# EAGLE library part CPL-MDR-2PHSTEPPER (library TinWhiskers - Copy)
Stepper Driver (Trinamic TMC2130-LA)
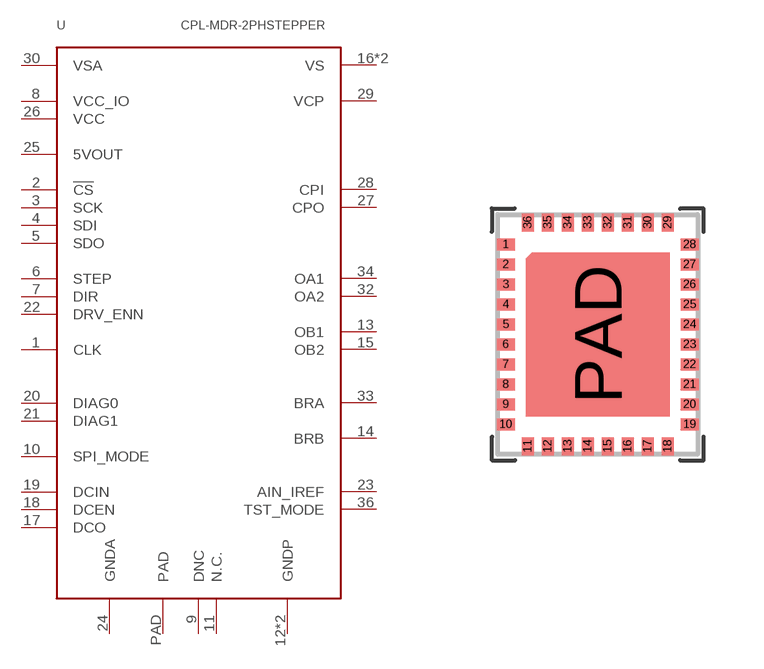
[diagram p0: symbol with the pads of QFN36-(5X6); footprint QFN36-(5X6)]

Designator prefix -

## CPL-MDR-2PHSTEPPER  [QFN36-(5X6)]
1  CLK
2  !CS
3  SCK
4  SDI
5  SDO
6  STEP
7  DIR
8  VCC_IO
9  DNC
10  SPI_MODE
11  N.C.
12  GNDP
13  OB1
14  BRB
15  OB2
16  VS
17  DCO
18  DCEN
19  DCIN
20  DIAG0
21  DIAG1
22  DRV_ENN
23  AIN_IREF
24  GNDA
25  5VOUT
26  VCC
27  CPO
28  CPI
29  VCP
30  VSA
31  VS
32  OA2
33  BRA
34  OA1
35  GNDP
36  TST_MODE
PAD  PAD

## Footprint QFN36-(5X6) (pad centres in mm)
smd 0.45 x 0.3: 1 -2.3,2.25; 2 -2.3,1.75; 3 -2.3,1.25; 4 -2.3,0.75; 5 -2.3,0.25; 6 -2.3,-0.25; 7 -2.3,-0.75; 8 -2.3,-1.25; 9 -2.3,-1.75; 10 -2.3,-2.25; 19 2.3,-2.25; 20 2.3,-1.75; 21 2.3,-1.25; 22 2.3,-0.75; 23 2.3,-0.25; 24 2.3,0.25; 25 2.3,0.75; 26 2.3,1.25; 27 2.3,1.75; 28 2.3,2.25
smd 0.3 x 0.45: 11 -1.75,-2.8; 12 -1.25,-2.8; 13 -0.75,-2.8; 14 -0.25,-2.8; 15 0.25,-2.8; 16 0.75,-2.8; 17 1.25,-2.8; 18 1.75,-2.8; 29 1.75,2.8; 30 1.25,2.8; 31 0.75,2.8; 32 0.25,2.8; 33 -0.25,2.8; 34 -0.75,2.8; 35 -1.25,2.8; 36 -1.75,2.8
smd 2.6 x 3.1: PAD 0,0